# EAGLE library part *4052B? (library 405x)
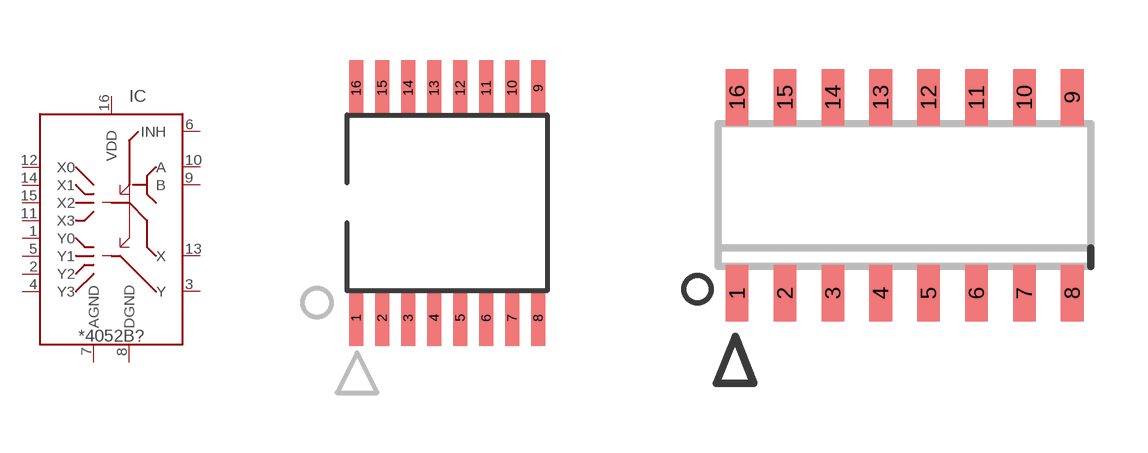
[diagram p0: symbol with the pads of TSSOP-16; footprints TSSOP-16, SOIC16N]

Designator prefix IC

## MC14052BDTR2G (MARK: 14 052B; MF: ONSemi; MPN: MC14052BDTR2G)  [TSSOP-16]
1  Y0
2  Y2
3  Y
4  Y3
5  Y1
6  INH  in
7  AGND  pwr
8  DGND  pwr
9  B  in
10  A  in
11  X3
12  X0
13  X
14  X1
15  X2
16  VDD  pwr

## MC14052BDR2G (MARK: 14052BG; MF: ONSemi; MPN: MC14052BDR2G)  [SOIC16N]
Pads as for TSSOP-16

## Footprint TSSOP-16 (pad centres in mm)
smd 0.35 x 1.4: 1 -2.275,-2.875; 2 -1.625,-2.875; 3 -0.975,-2.875; 4 -0.325,-2.875; 5 0.325,-2.875; 6 0.975,-2.875; 7 1.625,-2.875; 8 2.275,-2.875; 9 2.275,2.875; 10 1.625,2.875; 11 0.975,2.875; 12 0.325,2.875; 13 -0.325,2.875; 14 -0.975,2.875; 15 -1.625,2.875; 16 -2.275,2.875

## Footprint SOIC16N (pad centres in mm)
SMALL OUTLINE INTEGRATED CIRCUIT
smd 0.6 x 1.5: 1 -4.445,-2.6; 2 -3.175,-2.6; 3 -1.905,-2.6; 4 -0.635,-2.6; 5 0.635,-2.6; 6 1.905,-2.6; 7 3.175,-2.6; 8 4.445,-2.6; 9 4.445,2.6; 10 3.175,2.6; 11 1.905,2.6; 12 0.635,2.6; 13 -0.635,2.6; 14 -1.905,2.6; 15 -3.175,2.6; 16 -4.445,2.6